# EAGLE library part CON-HRS-DM3AT (library BreakoutBoard)
Hirose DM3AT microSD card connector Hirose DM3AT Push-Push (ejection mechanism), top board mounting microSD card connector Source: http://www.hirose.co.jp/cataloge_hp/e60900232.pdf
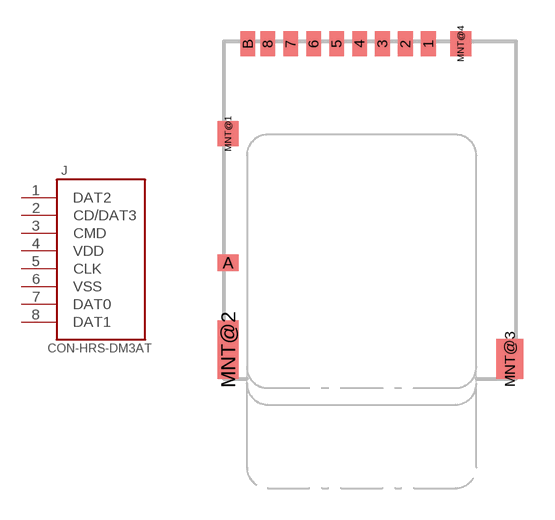
[diagram p6: symbol with the pads of HRS-DM3AT; footprint HRS-DM3AT]

Designator prefix J

## CON-HRS-DM3AT (DIGI-KEY#: HR1964CT-ND; MF: Hirose; MPN: DM3AT-SF-PEJM5; TERMINATION-TYPE: Right-angle SMT (standard))  [HRS-DM3AT]
1  DAT2
2  CD/DAT3
3  CMD
4  VDD  pwr
5  CLK
6  VSS  pwr
7  DAT0
8  DAT1

## Footprint HRS-DM3AT (pad centres in mm)
Hirose DM3AT Hirose DM3 series top mout push-push ejection mechanism microSD card connector Source: http://www.hirose.co.jp/cataloge_hp/e60900232.pdf
smd 0.7 x 1.2: 1 2.54,9.49; 2 1.44,9.49; 3 0.34,9.49; 4 -0.76,9.49; 5 -1.86,9.49; 6 -2.96,9.49; 7 -4.06,9.49; 8 -5.16,9.49; B -6.11,9.49
smd 1 x 0.8: A -7.06,-1.01
smd 1 x 1.2: MNT@1 -7.06,5.19; MNT@4 4.09,9.49
smd 1 x 2.8: MNT@2 -7.06,-5.16
smd 1.3 x 1.9: MNT@3 6.44,-5.61